# EAGLE library part DC_JACK_DELL (library Moodlight)
DC-Buchse für DELL-Notebook
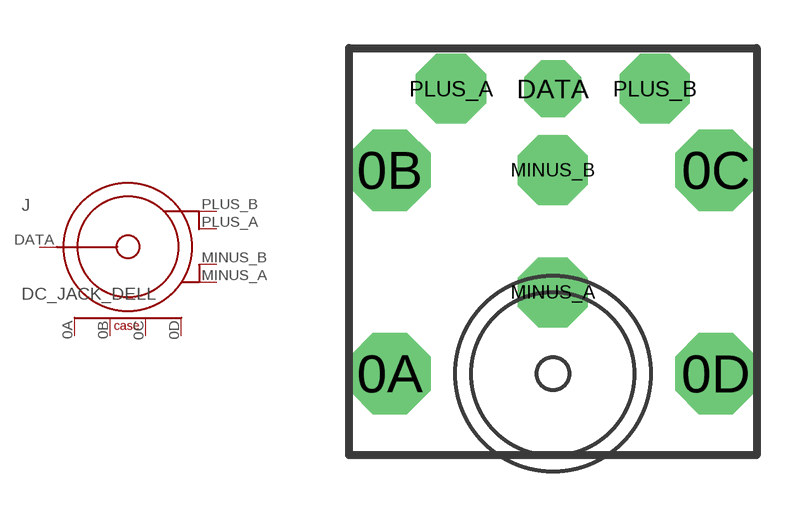
[diagram p3: symbol with the pads of DC_JACK_DELL; footprint DC_JACK_DELL]

Designator prefix J

## DC_JACK_DELL  [DC_JACK_DELL]
0A  0A  pas
0B  0B  pas
0C  0C  pas
0D  0D  pas
DATA  3  pas
MINUS_A  1A  pas
MINUS_B  1B  pas
PLUS_A  2A  pas
PLUS_B  2B  pas

## Footprint DC_JACK_DELL (pad centres in mm)
drill 1.3 pad 2.54 octagon: 0A -5.08,-6.35; 0B -5.08,0; 0C 5.08,0; 0D 5.08,-6.35
drill 0.7 pad 1.778 octagon: DATA 0,2.54
drill 1.2 pad 2.184 octagon: MINUS_A 0,-3.81; MINUS_B 0,0; PLUS_A -3.175,2.54; PLUS_B 3.175,2.54